# Altium schematic symbol library Components - 30.10.24 - 13.33.SchLib: 1 symbol
Pins are listed as number, name and electrical type; pins without a type are passive.

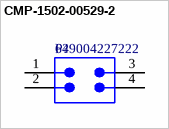
[diagram p0: symbol CMP-1502-00529-2]

## CMP-1502-00529-2
designator P?, comment 649004227222
NexarPartId: 8917589; Number of Contacts: 4; Contact Resistance: 10mΩ; Voltage Rating: 600V; Row Spacing: 5.5118mm; Gender: Male; Current Rating: 8A; Insulation Resistance: 1GΩ; Insulation: Insulated; Connector Type: Male Pin, Socket; Pitch: 4.2mm; Lead Pitch: 4.2mm; Housing Material: Nylon; Max Operating Temperature: 105°C; Fastening Type: Ramp; Number of Pins: 4; Length: 9.6mm; Contact Plating: Tin; Color: White; Flammability Rating: UL94 V-0; Width: 9.7mm; REACH SVHC: Unknown; Number of Rows: 2; Number of Positions: 4; Height: 12.8mm; Min Operating Temperature: -40°C; Termination: Through Hole; Contact Material: Copper; RoHS: Compliant; Contact Gender: Male; Operating Supply Voltage: 600V; Mount: Through Hole
footprint PCBComponent_1
pins: 1, 2, 3, 4